# EAGLE library part HD-M514R (library moje)
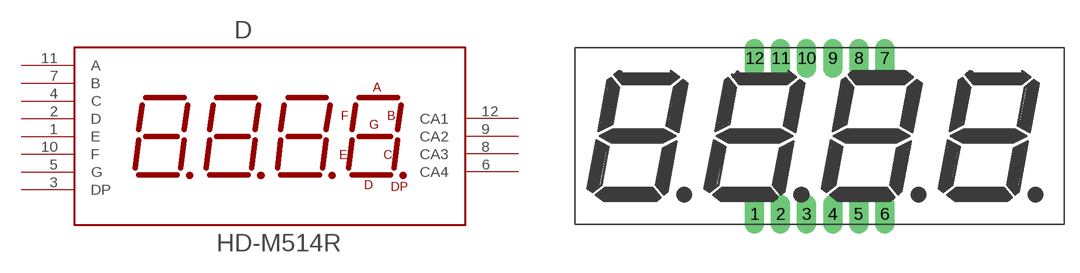
[diagram p2: symbol with the pads of DIL18SE2; footprint DIL18SE2]

Designator prefix D

## HD-M514R  [DIL18SE2]
1  E
2  D
3  DP
4  C
5  G
6  CA4
7  B
8  CA3
9  CA2
10  F
11  A
12  CA1

## Footprint DIL18SE2 (pad centres in mm)
drill 0.813 pad 1.905 long: 1 -6.35,-7.62; 2 -3.81,-7.62; 3 -1.27,-7.62; 4 1.27,-7.62; 5 3.81,-7.62; 6 6.35,-7.62; 7 6.35,7.62; 8 3.81,7.62; 9 1.27,7.62; 10 -1.27,7.62; 11 -3.81,7.62; 12 -6.35,7.62